# Altium footprint library PCB封装库.PcbLib: 1 footprints
Each footprint in its own frame and in the unit in brackets; x right, y up, seen from the top. Pads: shape width x height; smd on the part's side, far side on the other; paste and mask are expansions set on the pad; w line width, h text height; cw(c..) or ccw(c..) is an arc to the next point about the centre after c.
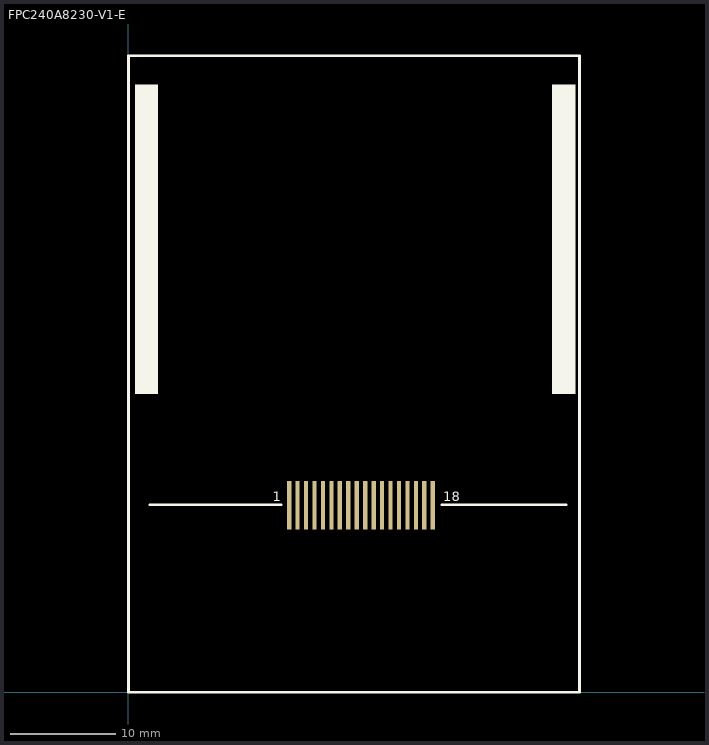
[diagram p0: the footprint, top view; thin cyan lines are the x and y axes]

## FPC240A8230-V1-E [mm]
pads (18):
  rect 0.4x4.6 smd: 1(15.22,17.709) 2(16.02,17.709) 3(16.82,17.709) 4(17.62,17.709) 5(18.42,17.709) 6(19.22,17.709) 7(20.02,17.709) 8(20.82,17.709) 9(21.62,17.709) 10(22.42,17.709) 11(23.22,17.709) 12(24.02,17.709) 13(24.82,17.709) 14(25.62,17.709) 15(26.42,17.709) 16(27.22,17.709) 17(28.02,17.709) 18(28.82,17.709)
Top Overlay:
  rectangle: 0.604,28.242 2.804,57.564
  rectangle: 40.114,28.242 42.314,57.564
  lines w0.254: 2.019,17.76 14.482,17.76 ; 29.666,17.76 41.45,17.76 ; 0,0 0,60.26 42.72,60.26 42.72,0 0,0
  text "18" at 29.793,18.062 h0.89
  text "1" at 13.689,18.062 h0.89